# EAGLE library part ALT4532 (library Trans)
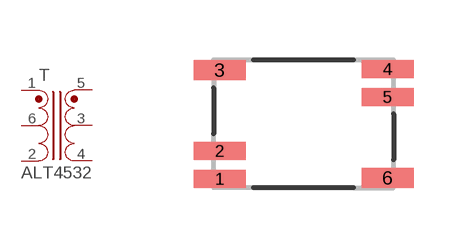
[diagram p1: symbol with the pads of ALT4532; footprint ALT4532]

Designator prefix T

## ALT4532  [ALT4532]
1  1+  pas
2  1-  pas
3  2CT  pas
4  2-  pas
5  2+  pas
6  1CT  pas

## Footprint ALT4532 (pad centres in mm)
smd 1.3 x 0.45: 1 -2.1,-1.375; 2 -2.1,-0.675; 4 2.1,1.375; 5 2.1,0.675
smd 1.3 x 0.5: 3 -2.1,1.35; 6 2.1,-1.35